# Altium schematic symbol library Header 5X2.Schlib: 1 symbol
Pins are listed as number, name and electrical type; pins without a type are passive.

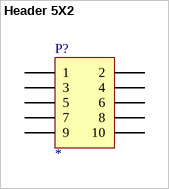
[diagram p0: symbol Header 5X2]

## Header 5X2
designator P?
pins: 1, 2, 3, 4, 5, 6, 7, 8, 9, 10